# EAGLE library part LTC3894 (library Analog Devices)
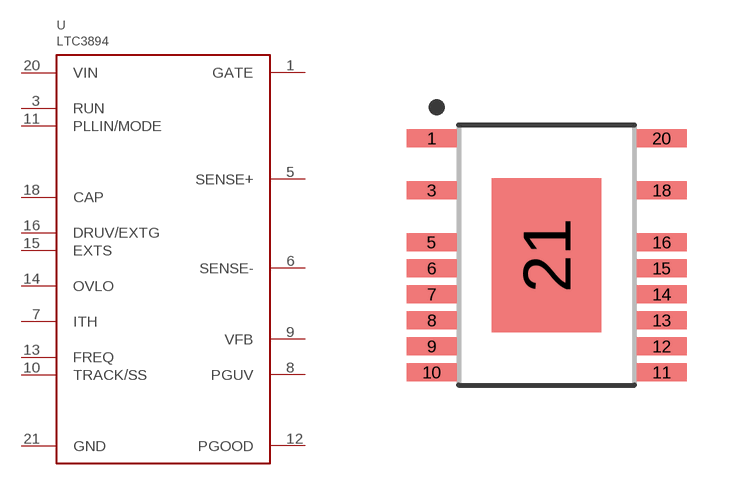
[diagram p24: symbol with the pads of MSOP20_HV_EP; footprint MSOP20_HV_EP]

Designator prefix U

## LTC3894  [MSOP20_HV_EP]
1  GATE
3  RUN
5  SENSE+
6  SENSE-
7  ITH
8  PGUV
9  VFB
10  TRACK/SS
11  PLLIN/MODE
12  PGOOD
13  FREQ
14  OVLO
15  EXTS
16  DRUV/EXTG
18  CAP
20  VIN
21  GND

## Footprint MSOP20_HV_EP (pad centres in mm)
smd 1.25 x 0.45: 1 -2.875,2.925; 3 -2.875,1.625; 5 -2.875,0.325; 6 -2.875,-0.325; 7 -2.875,-0.975; 8 -2.875,-1.625; 9 -2.875,-2.275; 10 -2.875,-2.925; 11 2.875,-2.925; 12 2.875,-2.275; 13 2.875,-1.625; 14 2.875,-0.975; 15 2.875,-0.325; 16 2.875,0.325; 18 2.875,1.625; 20 2.875,2.925
smd 2.74 x 3.86: 21 0,0